# EAGLE library part ICM-42670-P (library ICM-42670-P)
IMUs - Inertial Measurement Units Low-Power, Premium Performance 6-Axis MotionTrackingTM IMU with I3C, I2C and SPI interface in 2.5mm x 3mm Package Source: Datasheet <https://3cfeqx1hf82y3xcoull08ihx-wpengine.netdna-ssl.com/wp-content/uploads/2021/07/DS-000451-ICM-42670-P-v1.0.pdf>
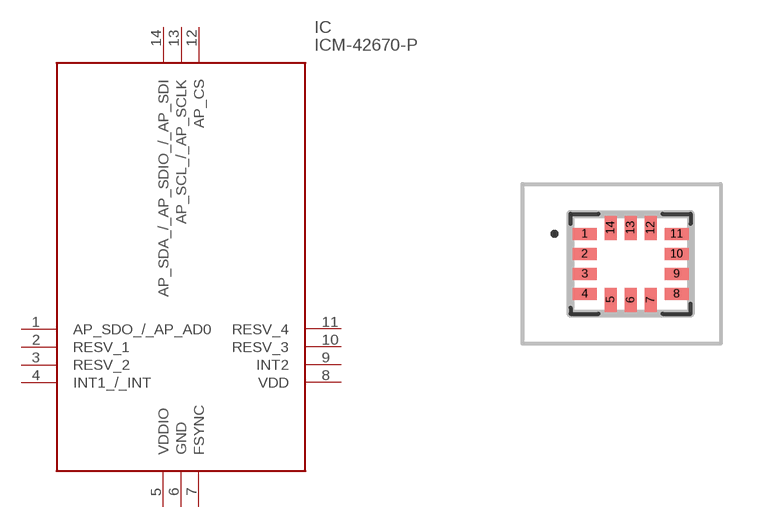
[diagram p0: symbol with the pads of ICM42670P; footprint ICM42670P]

Designator prefix IC

## ICM-42670-P (Description: IMUs - Inertial Measurement Units Low-Power, Premium Performance 6-Axis MotionTrackingTM IMU with I3C, I2C and SPI interface in 2.5mm x 3mm Package; Height: mm; Manufacturer_Name: TDK; Manufacturer_Part_Number: ICM-42670-P; Mouser_Part_Number: 410-ICM-42670-P; Mouser_Price-Stock: https://www.mouser.co.uk/ProductDetail/TDK-InvenSense/ICM-42670-P?qs=iLbezkQI%252BsgK8sMF5V7fQQ%3D%3D)  [ICM42670P]
1  AP_SDO_/_AP_AD0
2  RESV_1
3  RESV_2
4  INT1_/_INT
5  VDDIO
6  GND
7  FSYNC
8  VDD
9  INT2
10  RESV_3
11  RESV_4
12  AP_CS
13  AP_SCL_/_AP_SCLK
14  AP_SDA_/_AP_SDIO_/_AP_SDI

## Footprint ICM42670P (pad centres in mm)
14 Lead LGA (2.5x3x0.76)
smd 0.6 x 0.3: 1 -1.15,0.75; 2 -1.15,0.25; 3 -1.15,-0.25; 4 -1.15,-0.75; 8 1.15,-0.75; 9 1.15,-0.25; 10 1.15,0.25; 11 1.15,0.75
smd 0.3 x 0.6: 5 -0.5,-0.9; 6 0,-0.9; 7 0.5,-0.9; 12 0.5,0.9; 13 0,0.9; 14 -0.5,0.9